# EAGLE library part TPS92638 (library TPS92638-Q1)
The TPS92638-Q1 is an eight-channel linear LED driver with PWM dimming control.
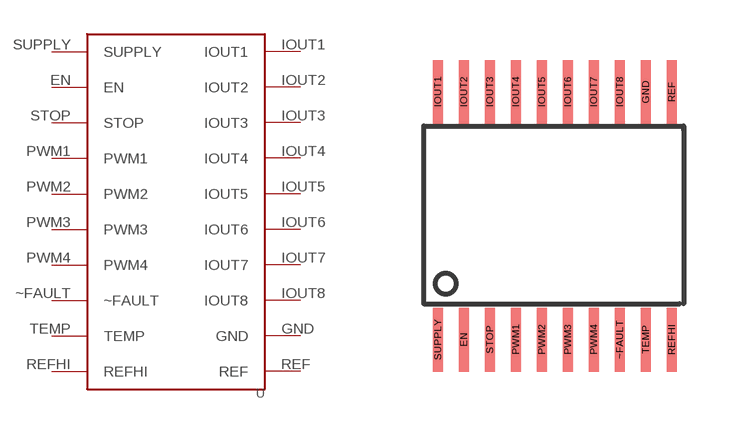
[diagram p0: symbol with the pads of TPS92638; footprint TPS92638]

Designator prefix -

## TPS92638  [TPS92638]
EN  EN
GND  GND
IOUT1  IOUT1
IOUT2  IOUT2
IOUT3  IOUT3
IOUT4  IOUT4
IOUT5  IOUT5
IOUT6  IOUT6
IOUT7  IOUT7
IOUT8  IOUT8
PWM1  PWM1
PWM2  PWM2
PWM3  PWM3
PWM4  PWM4
REF  REF
REFHI  REFHI
STOP  STOP
SUPPLY  SUPPLY
TEMP  TEMP
~FAULT  ~FAULT

## Footprint TPS92638 (pad centres in mm)
smd 0.25 x 1.6: EN -2.25,-3.1; GND 2.3,3.1; IOUT1 -2.9,3.1; IOUT2 -2.25,3.1; IOUT3 -1.6,3.1; IOUT4 -0.95,3.1; IOUT5 -0.3,3.1; IOUT6 0.35,3.1; IOUT7 1,3.1; IOUT8 1.65,3.1; PWM1 -0.95,-3.1; PWM2 -0.3,-3.1; PWM3 0.35,-3.1; PWM4 1,-3.1; REF 2.95,3.1; REFHI 2.95,-3.1; STOP -1.6,-3.1; SUPPLY -2.9,-3.1; TEMP 2.3,-3.1; ~FAULT 1.65,-3.1